# EAGLE library part MAX9643 (library common)
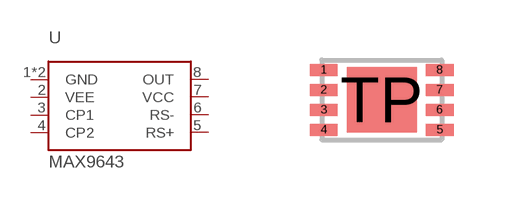
[diagram p8: symbol with the pads of T823+1; footprint T823+1]

Designator prefix U

## MAX9643  [T823+1]
1  GND
2  VEE
3  CP1
4  CP2
5  RS+
6  RS-
7  VCC
8  OUT
TP  GND

## Footprint T823+1 (pad centres in mm)
smd 0.7 x 0.3: 1 -1.45,0.75; 2 -1.45,0.25; 3 -1.45,-0.25; 4 -1.45,-0.75; 5 1.45,-0.75; 6 1.45,-0.25; 7 1.45,0.25; 8 1.45,0.75
smd 1.75 x 1.63: TP 0,0